# EAGLE library part L293DD (library NA-2025)
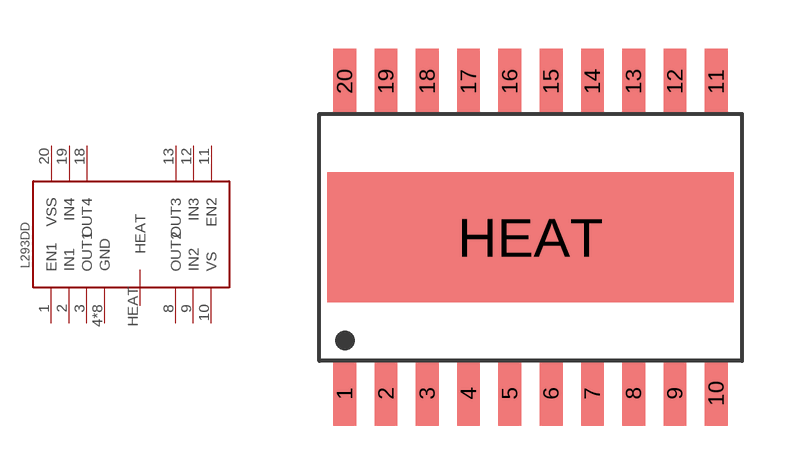
[diagram p5: symbol with the pads of SO20; footprint SO20]

Designator prefix -

## L293DD  [SO20]
1  EN1
2  IN1
3  OUT1
4  GND
5  GND
6  GND
7  GND
8  OUT2
9  IN2
10  VS
11  EN2
12  IN3
13  OUT3
14  GND
15  GND
16  GND
17  GND
18  OUT4
19  IN4
20  VSS
HEAT  HEAT

## Footprint SO20 (pad centres in mm)
smd 0.7 x 2: 1 -5.715,-4.8; 2 -4.445,-4.8; 3 -3.175,-4.8; 4 -1.905,-4.8; 5 -0.635,-4.8; 6 0.635,-4.8; 7 1.905,-4.8; 8 3.175,-4.8; 9 4.445,-4.8; 10 5.715,-4.8; 11 5.715,4.8; 12 4.445,4.8; 13 3.175,4.8; 14 1.905,4.8; 15 0.635,4.8; 16 -0.635,4.8; 17 -1.905,4.8; 18 -3.175,4.8; 19 -4.445,4.8; 20 -5.715,4.8
smd 12.5 x 4: HEAT 0,0